# Altium footprint library USB1100-30-A.PcbLib: 1 footprints
Each footprint in its own frame and in the unit in brackets; x right, y up, seen from the top. Pads: shape width x height; smd on the part's side, far side on the other; paste and mask are expansions set on the pad; w line width, h text height; cw(c..) or ccw(c..) is an arc to the next point about the centre after c.
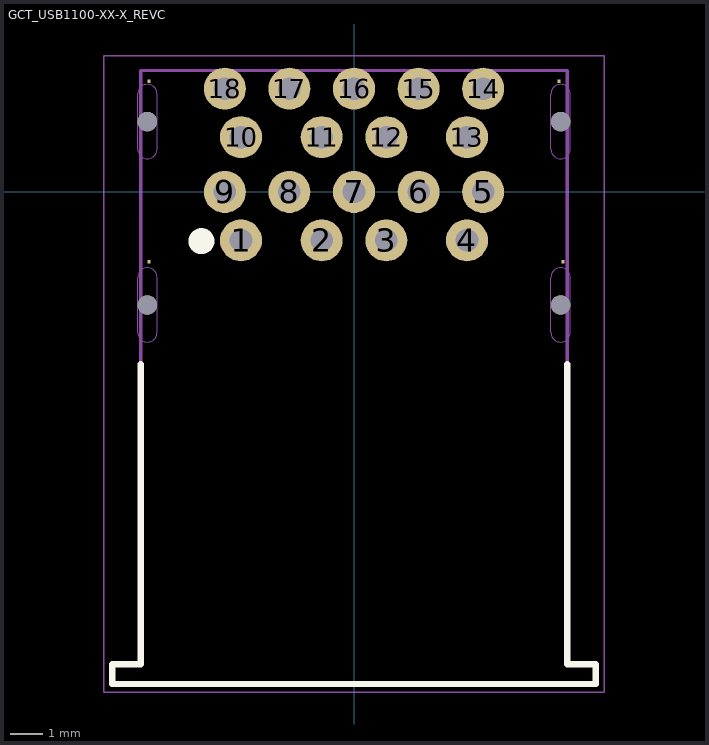
[diagram p0: the footprint, top view; thin cyan lines are the x and y axes]

## GCT_USB1100-XX-X_REVC [mm]
pads (26):
  round 1.3 hole 0.7: 1(-3.5,-1.5) 2(-1,-1.5) 3(1,-1.5) 4(3.5,-1.5) 5(4,0) 6(2,0) 7(0,0) 8(-2,0) 9(-4,0) 10(-3.5,1.7) 11(-1,1.7) 12(1,1.7) 13(3.5,1.7) 14(4,3.2) 15(2,3.2) 16(0,3.2) 17(-2,3.2) 18(-4,3.2)
  rect 0.1x0.1 smd paste-1 mask+0: 19(6.477,-2.159) 20(6.35,3.429) 21(-6.35,-2.159) 22(-6.35,3.429)
  round 0.6 hole 0.6 unplated: ""(-6.4,-3.5) ""(-6.4,2.18) ""(6.4,-3.5) ""(6.4,2.18)
Top Overlay:
  circle w0.4: c-4.724,-1.524 r0.203
  lines w0.2: -6.604,-5.334 -6.604,-14.63 -7.493,-14.63 -7.493,-15.24 7.493,-15.24 7.493,-14.63 6.604,-14.63 6.604,-5.334
Mechanical 1:
  lines w0: -6.7,-4.35 ccw(c-6.4,-4.35) -6.4,-4.65 ccw(c-6.4,-4.35) -6.1,-4.35 -6.1,-2.65 ccw(c-6.4,-2.65) -6.4,-2.35 ccw(c-6.4,-2.65) -6.7,-2.65 -6.7,-4.35 ; -6.7,1.33 ccw(c-6.4,1.33) -6.4,1.03 ccw(c-6.4,1.33) -6.1,1.33 -6.1,3.03 ccw(c-6.4,3.03) -6.4,3.33 ccw(c-6.4,3.03) -6.7,3.03 -6.7,1.33 ; 6.1,-4.35 ccw(c6.4,-4.35) 6.4,-4.65 ccw(c6.4,-4.35) 6.7,-4.35 6.7,-2.65 ccw(c6.4,-2.65) 6.4,-2.35 ccw(c6.4,-2.65) 6.1,-2.65 6.1,-4.35 ; 6.1,1.33 ccw(c6.4,1.33) 6.4,1.03 ccw(c6.4,1.33) 6.7,1.33 6.7,3.03 ccw(c6.4,3.03) 6.4,3.33 ccw(c6.4,3.03) 6.1,3.03 6.1,1.33
Mechanical 13:
  lines w0.1: -7.493,-15.24 7.493,-15.24 7.493,-14.63 6.604,-14.63 6.604,3.759 -6.604,3.759 -6.604,-14.63 -7.493,-14.63 -7.493,-15.24
Mechanical 15:
  lines w0.05: -7.747,-15.494 7.747,-15.494 7.747,4.216 -7.747,4.216 -7.747,-15.494
  lines w0.1: -0.508,0 0.508,0 ; 0,-0.508 0,0.508